# Altium footprint library bici_components_abby.PcbLib: 48 footprints (part 3 of 3)
Each footprint in its own frame and in the unit in brackets; x right, y up, seen from the top. Pads: shape width x height; smd on the part's side, far side on the other; paste and mask are expansions set on the pad; w line width, h text height; cw(c..) or ccw(c..) is an arc to the next point about the centre after c.
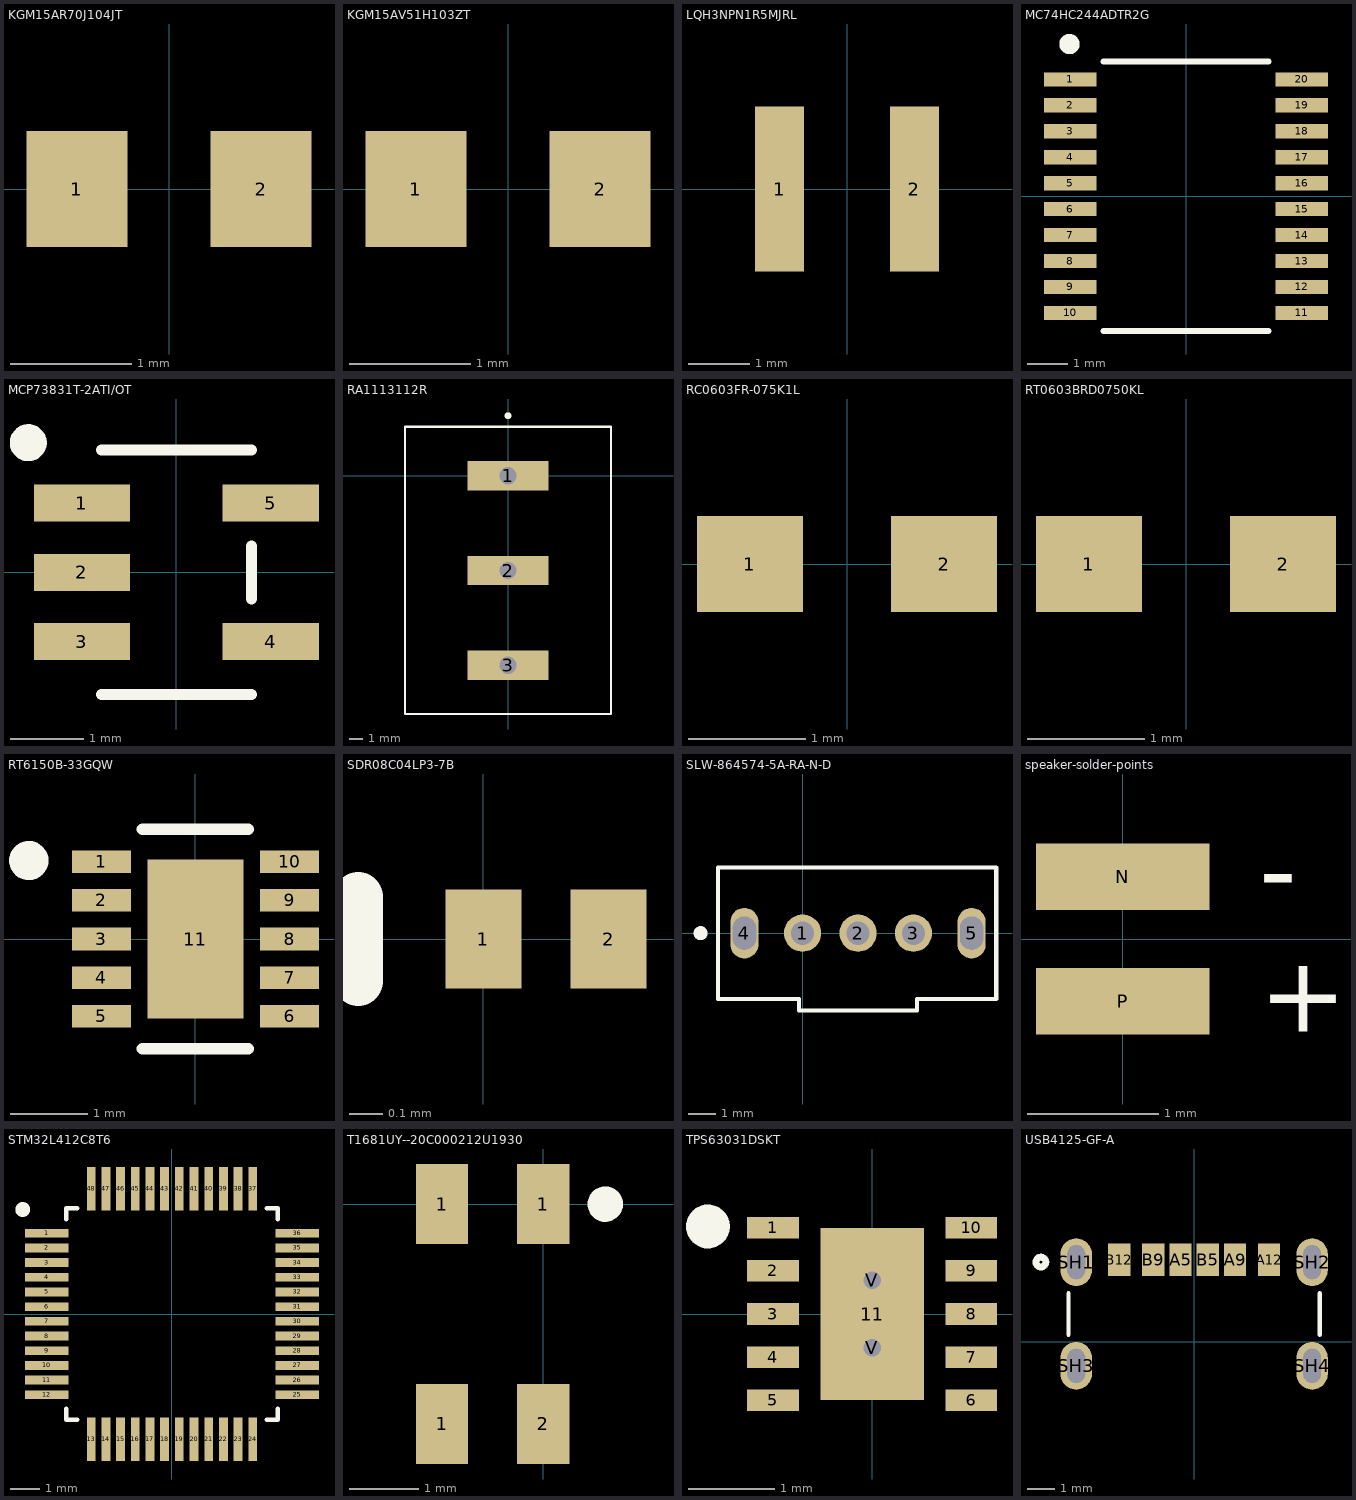
[diagram p2: the footprints below, top view; thin cyan lines are the x and y axes]

## KGM15AR70J104JT [mil]
pads (2):
  rect 33x37.8 smd paste+0 mask+4: 1(-30,0) 2(30,0)
3D body "CAP_06033D104JAT2A.step": height 35.43, standoff 0, extent -34.45,-18.9 34.45,18.9

## KGM15AV51H103ZT [mil]
height 35.43
pads (2):
  rect 33x37.8 smd paste+0 mask+4: 1(-30,0) 2(30,0)
3D body: height 35.43, standoff 0, extent -20.67,-18.9 20.67,18.9
3D body: height 35.43, standoff 0, extent 20.67,-18.9 34.45,18.9
3D body: height 35.43, standoff 0, extent -34.45,-18.9 -20.67,18.9

## LQH3NPN1R5MJRL [mm]
pads (2):
  rect 0.8x2.7 smd: 1(-1.1,0) 2(1.1,0)
3D body "LQH3NPN1R5MJRL.STEP": height 1.2, standoff 0, extent -1.476,-1.524 1.524,1.476

## MC74HC244ADTR2G [mil]
pads (20):
  rect 51.5x14 smd paste+0 mask+3: 1(-114.25,115.16) 2(-114.25,89.57) 3(-114.25,63.98) 4(-114.25,38.39) 5(-114.25,12.8) 6(-114.25,-12.8) 7(-114.25,-38.39) 8(-114.25,-63.98) 9(-114.25,-89.57) 10(-114.25,-115.16) 11(114.25,-115.16) 12(114.25,-89.57) 13(114.25,-63.98) 14(114.25,-38.39) 15(114.25,-12.8) 16(114.25,12.8) 17(114.25,38.39) 18(114.25,63.98) 19(114.25,89.57) 20(114.25,115.16)
Top Overlay:
  circle w10: c-115,150 r5
  lines w6: -81.15,-133 81.15,-133 ; -81.15,133 81.15,133
3D body "TSSOP20_4P50X6P60_ONS.step": height 47.09, standoff 0, extent -125.98,-127.99 125.98,127.99

## MCP73831T-2ATI/OT [mil]
pads (5):
  rect 52x20 smd paste+0 mask+4: 1(-51,37.4) 2(-51,0) 3(-51,-37.4) 4(51,-37.4) 5(51,37.4)
Top Overlay:
  circle w10: c-80,70 r5
  lines w6: -40.5,-66 40.5,-66 ; -40.5,66 40.5,66 ; 40.5,-14.3 40.5,14.3
3D body "SOT-23-5_MC_MCH.step": height 57.09, standoff 0, extent -62.99,-60.98 62.99,60.98

## RA1113112R [mil]
pads (3):
  rect 235x85 hole 50 square: 1(0,0) 2(0,-276) 3(0,-552)
Top Overlay:
  circle w10: c0,175 r5
  lines w6: -300.5,-694.09 300.5,-694.09 300.5,142.91 -300.5,142.91 -300.5,-694.09
3D body "RA1113xxxR.stp": height 713.48, standoff -251.02, extent -295.28,-688.39 295.28,138.39

## RC0603FR-075K1L [mil]
pads (2):
  rect 35.4x32 smd paste+0 mask+4: 1(-32.5,0) 2(32.5,0)
3D body "RC0603N_YAG.step": height 27.99, standoff 0, extent -31.5,-15.98 31.5,15.98

## RT0603BRD0750KL [mil]
pads (2):
  rect 35.4x32 smd paste+0 mask+4: 1(-32.5,0) 2(32.5,0)
3D body "step_temp.STEP": height 21.65, standoff 0, extent -31.5,-15.75 31.5,15.75

## RT6150B-33GQW [mil]
pads (11):
  rect 30x11.5 smd paste+0 mask+2: 1(-48,39.37) 2(-48,19.68) 3(-48,0) 4(-48,-19.68) 5(-48,-39.37) 6(48,-39.37) 7(48,-19.68) 8(48,0) 9(48,19.68) 10(48,39.37)
  rect 49x81 smd paste+0 mask+2: 11(0,0)
Top Overlay:
  circle w10: c-85,40 r5
  lines w6: -26.97,-56 26.97,-56 ; -26.97,56 26.97,56
3D body "10-WFDFN-EP_RIT.step": height 29.09, standoff 0, extent -50.98,-50.98 50.98,50.98

## SDR08C04LP3-7B [mm]
pads (2):
  rect 0.23x0.3 smd paste+0 mask+0: 1(0,0) 2(0.38,0)
Top Overlay:
  lines w0.152: -0.381,-0.127 -0.381,0.127

## SLW-864574-5A-RA-N-D [mil]
pads (5):
  round 53 / inner round 60 / far side round 53 hole 33 paste-99999 mask+4: 1(0,0) 2(78.74,0) 3(157.48,0)
  oval 40x72 / inner oval 47x79 / far side oval 40x72 hole 33 slot 47.24 at 90 deg paste-99999 mask+4: 4(-82.68,0) 5(240.16,0)
Top Overlay:
  circle w10: c-145,0 r5
  lines w6: -120,-93.5 -5.13,-93.5 -5.13,-110 162.61,-110 162.61,-93.5 275,-93.5 275,93.5 -120,93.5 -120,-93.5
3D body "Same_Sky_SLW-864574-5A-RA-N-D.step": height 194.41, standoff -100.79, extent -93.58,-287.01 245,87.01

## speaker-solder-points [mil]
pads (2):
  rect 52x20 smd paste+0 mask+4: N(0,18.7) P(0,-18.7)
Top Overlay:
  text "-" at 41,9.5 h23
  text "+" at 41,-27.83 h23

## STM32L412C8T6 [mil]
pads (48):
  rect 58x11.8 smd paste+0 mask+4: 1(-168,108.27) 2(-168,88.58) 3(-168,68.9) 4(-168,49.21) 5(-168,29.53) 6(-168,9.84) 7(-168,-9.84) 8(-168,-29.53) 9(-168,-49.21) 10(-168,-68.9) 11(-168,-88.58) 12(-168,-108.27) 25(168,-108.27) 26(168,-88.58) 27(168,-68.9) 28(168,-49.21) 29(168,-29.53) 30(168,-9.84) 31(168,9.84) 32(168,29.53) 33(168,49.21) 34(168,68.9) 35(168,88.58) 36(168,108.27)
  rect 11.8x58 smd paste+0 mask+4: 13(-108.27,-168) 14(-88.58,-168) 15(-68.9,-168) 16(-49.21,-168) 17(-29.53,-168) 18(-9.84,-168) 19(9.84,-168) 20(29.53,-168) 21(49.21,-168) 22(68.9,-168) 23(88.58,-168) 24(108.27,-168) 37(108.27,168) 38(88.58,168) 39(68.9,168) 40(49.21,168) 41(29.53,168) 42(9.84,168) 43(-9.84,168) 44(-29.53,168) 45(-49.21,168) 46(-68.9,168) 47(-88.58,168) 48(-108.27,168)
Top Overlay:
  circle w10: c-200,140 r5
  lines w6: -142,-126.87 -142,-142 -126.87,-142 ; -142,126.87 -142,142 -126.87,142 ; 126.87,-142 142,-142 142,-126.87 ; 126.87,142 142,142 142,126.87
3D body "LQFP-48.step": height 63.11, standoff 0, extent -180.98,-180.98 180.98,180.98

## T1681UY--20C000212U1930 [mm]
pads (4):
  rect 0.75x1.15 smd paste+0 mask+0.102: 1(-1.45,-3.15) 1(-1.45,0) 1(0,0) 2(0,-3.15)
Top Overlay:
  circle w0.254: c0.889,0 r0.127

## TPS63031DSKT [mm]
pads (13):
  rect 0.6x0.25 smd paste+0 mask+0.102: 1(-1.15,1) 2(-1.15,0.5) 3(-1.15,0) 4(-1.15,-0.5) 5(-1.15,-1) 6(1.15,-1) 7(1.15,-0.5) 8(1.15,0) 9(1.15,0.5) 10(1.15,1)
  rect 1.2x2 smd paste-0.6 mask+0.102: 11(0,0)
  round 0.5 / inner round 1.524 / far side round 0.5 hole 0.203 paste-2539.97 mask+0.102: V(0,-0.394) V(0,0.394)
Top Overlay:
  circle w0.254: c-1.905,1.016 r0.127
Top Paste:
  region: -0.563,0.895 -0.563,-0.894 0.563,-0.894 0.563,0.895
Top Solder:
  region: 0,-1
  region: 0,1
  region: 0.663,-1.064 0.2,-1.064 0.2,1.064 0.663,1.064
  region: -0.2,-1.064 -0.663,-1.064 -0.663,1.064 -0.2,1.064
  region: 0.663,-1.064 -0.663,-1.064 -0.663,-0.594 0.663,-0.594
  region: 0.663,-0.194 -0.663,-0.194 -0.663,0.194 0.663,0.194
  region: 0.663,0.594 -0.663,0.594 -0.663,1.064 0.663,1.064
3D body "DSK0010A.stp": height 0.77, standoff 0, extent -1.25,-1.25 1.25,1.25

## USB4125-GF-A [mm]
pads (10):
  rect 0.813x1.194 smd paste+0 mask+0.102: A5(-0.5,3) A9(1.5,3) A12(2.743,3) B5(0.5,3) B9(-1.5,3) B12(-2.743,3)
  oval 1.15x1.75 hole 0.65 slot 1.25 at 90 deg: SH1(-4.32,2.92) SH2(4.32,2.92) SH3(-4.32,-0.88) SH4(4.32,-0.88)
Top Overlay:
  circle w0.254: c-5.613,2.921 r0.18
  lines w0.152: -4.597,0.259 -4.597,1.781 ; 4.597,0.259 4.597,1.781
3D body "usb4125-gf-a.stp": height 3.23, standoff -1.03, extent -4.47,-3.481 4.47,3.419